# EAGLE library part LM386 (library Elecrow_IC)
Low Voltage Audio Power Amplifier http://www.ti.com/lit/ds/symlink/lm386.pdf
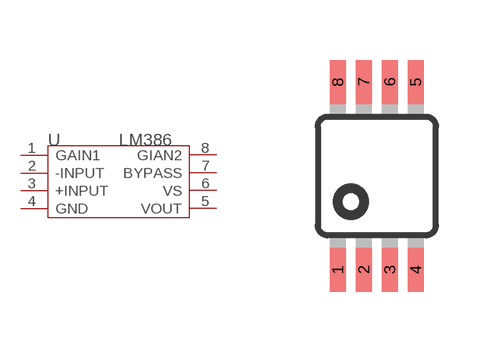
[diagram p28: symbol with the pads of MSOP8; footprint MSOP8]

Designator prefix U

## LM386-MSOP8  [MSOP8]
1  GAIN1
2  -INPUT  in
3  +INPUT  in
4  GND  sup
5  VOUT  out
6  VS  sup
7  BYPASS
8  GIAN2

## Footprint MSOP8 (pad centres in mm)
8M, 8-Lead, 0.118" Wide, Miniature Small Outline Package MSOP 8M-Package doc1097.pdf
smd 0.4 x 1.1: 1 -0.975,-2.35; 2 -0.325,-2.35; 3 0.325,-2.35; 4 0.975,-2.35; 5 0.975,2.35; 6 0.325,2.35; 7 -0.325,2.35; 8 -0.975,2.35